# Altium footprint library AM1S.PcbLib: 1 footprints
Each footprint in its own frame and in the unit in brackets; x right, y up, seen from the top. Pads: shape width x height; smd on the part's side, far side on the other; paste and mask are expansions set on the pad; w line width, h text height; cw(c..) or ccw(c..) is an arc to the next point about the centre after c.
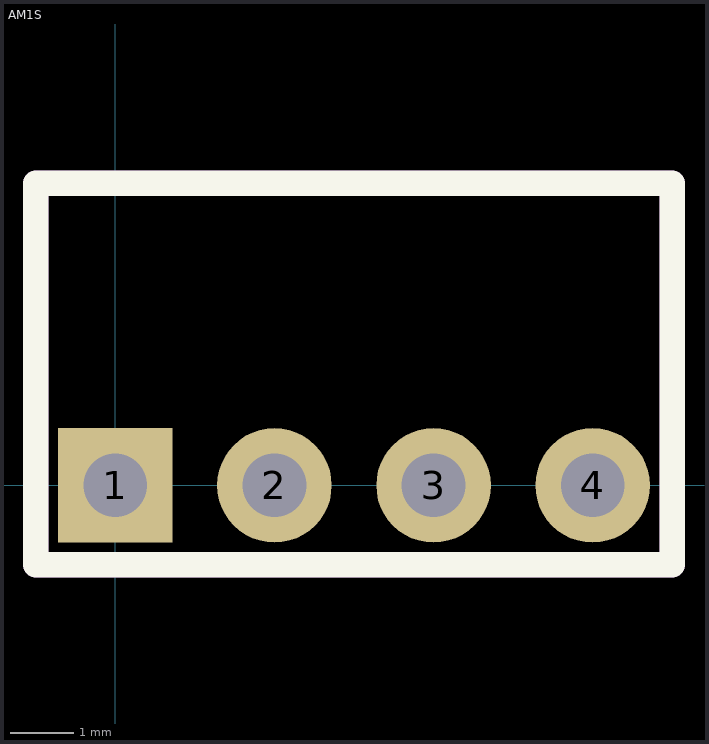
[diagram p0: the footprint, top view; thin cyan lines are the x and y axes]

## AM1S [mm]
pads (4):
  rect 1.8x1.8 hole 1: 1(0,0)
  round 1.8 hole 1: 2(2.5,0) 3(5,0) 4(7.5,0)
Top Overlay:
  lines w0.4: -1.25,-1.25 8.75,-1.25 8.75,4.75 0,4.75 -1.25,4.75 -1.25,-1.25
TopAssy:
  lines w0.4: -1.25,-1.25 -1.25,4.75 0,4.75 8.75,4.75 8.75,-1.25 -1.25,-1.25
3D body: height 9.65, standoff 0.5, extent -1.25,-1.25 8.75,4.75